# Altium footprint library PcbLib1.PcbLib: 1 footprints
Each footprint in its own frame and in the unit in brackets; x right, y up, seen from the top. Pads: shape width x height; smd on the part's side, far side on the other; paste and mask are expansions set on the pad; w line width, h text height; cw(c..) or ccw(c..) is an arc to the next point about the centre after c.
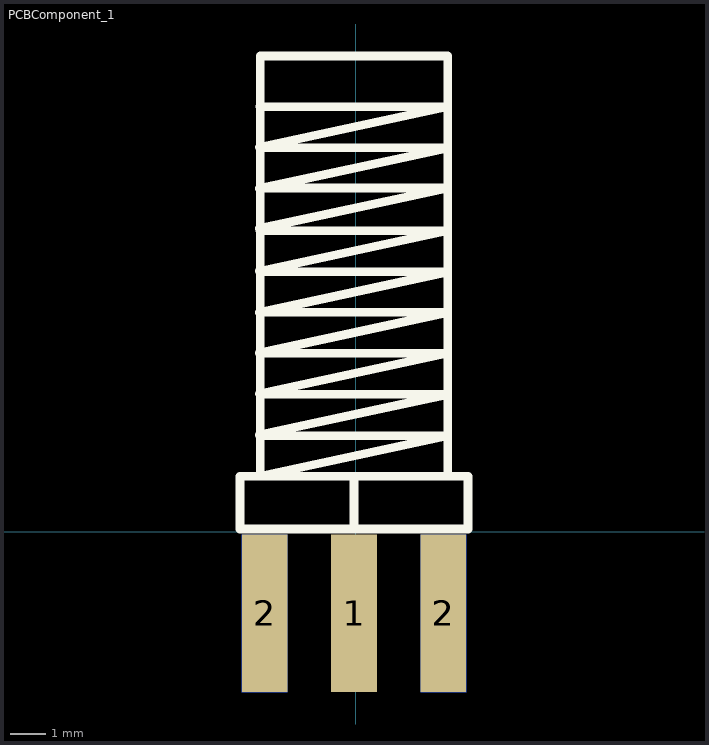
[diagram p0: the footprint, top view; thin cyan lines are the x and y axes]

## PCBComponent_1 [mm]
pads (5):
  rect 1.3x4.5 smd: 1(-0.052,-2.322) 2(-2.602,-2.322) 2(2.498,-2.322)
  rect 1.3x4.5 smd far side: 2(-2.602,-2.322) 2(2.498,-2.322)
Top Overlay:
  lines w0.254: -2.746,2.773 2.609,3.927 -2.741,3.937 ; -2.746,3.947 2.609,5.101 -2.741,5.11 ; -2.746,5.11 2.609,6.264 -2.741,6.273 ; -2.746,6.265 2.609,7.418 -2.741,7.428 ; -2.746,7.444 2.609,8.598 -2.741,8.607 ; -2.746,8.659 2.609,9.813 -2.741,9.823 ; -2.746,9.802 2.609,10.956 -2.741,10.966 ; -2.746,10.982 2.609,12.136 -2.741,12.145 ; -2.732,1.591 2.623,2.745 -2.727,2.754 ; -2.727,1.591 -2.727,13.591 2.623,13.591 2.623,1.591 ; -0.052,0.091 -0.052,1.591 ; 3.123,0.091 -3.302,0.091 -3.302,1.591 3.198,1.591 3.198,0.091
Mechanical 15:
  lines w0.003: 1.066,4.675 1.116,4.725